# Altium integrated library NCP167BMX330TBG.IntLib: 1 symbol
Pins are listed as number, name and electrical type; pins without a type are passive.

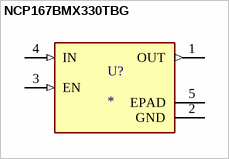
[diagram p0: symbol NCP167BMX330TBG]

## NCP167BMX330TBG
designator U?
Linear Voltage Regulator IC Positive Fixed 1 Output 700mA 4-XDFN (1x1); MF: onsemi; MP: NCP167BMX330TBG; Package: None; Price: None; Check_prices: https://www.snapeda.com/parts/NCP167BMX330TBG/EMI/view-part/?ref=eda; Value: *; SnapEDA_Link: https://www.snapeda.com/parts/NCP167BMX330TBG/EMI/view-part/?ref=snap; Availability: In Stock; Purchase-URL: https://pricing.snapeda.com/search?q=NCP167BMX330TBG&ref=eda
footprint VREG_NCP167BMX330TBG
pins: 1 OUT (out), 2 GND (power), 3 EN (in), 4 IN (in), 5 EPAD (power)